# Altium footprint library SODFL1608X70N.PcbLib: 1 footprints
Each footprint in its own frame and in the unit in brackets; x right, y up, seen from the top. Pads: shape width x height; smd on the part's side, far side on the other; paste and mask are expansions set on the pad; w line width, h text height; cw(c..) or ccw(c..) is an arc to the next point about the centre after c.
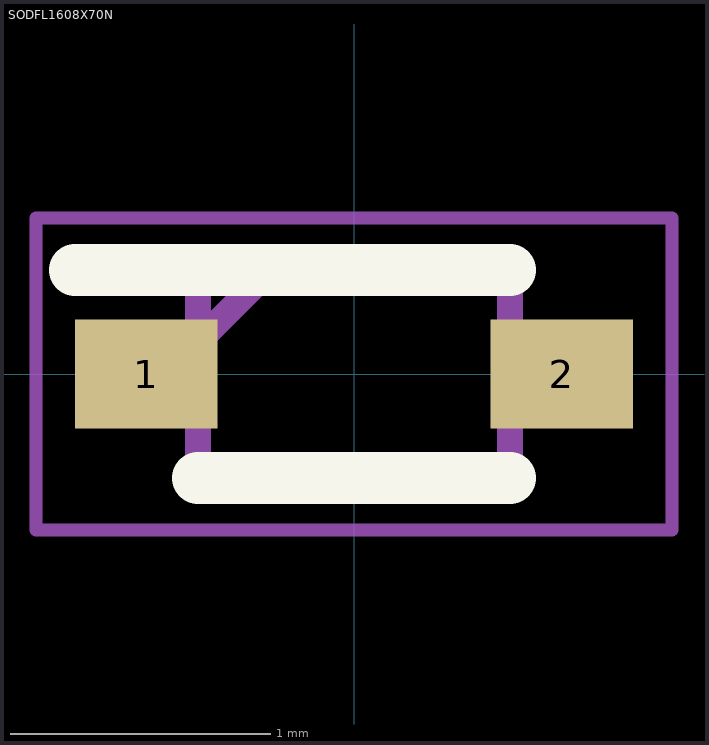
[diagram p0: the footprint, top view; thin cyan lines are the x and y axes]

## SODFL1608X70N [mm]
pads (2):
  rect 0.55x0.42 smd: 1(-0.8,0) 2(0.8,0)
Top Overlay:
  lines w0.2: -1.075,0.4 0.6,0.4 ; -0.6,-0.4 0.6,-0.4
Mechanical 15:
  lines w0.1: -0.6,0.125 -0.325,0.4 ; -0.6,-0.4 0.6,-0.4 0.6,0.4 -0.6,0.4 -0.6,-0.4
Mechanical 20:
  lines w0.05: -1.225,-0.6 1.225,-0.6 1.225,0.6 -1.225,0.6 -1.225,-0.6